# EAGLE library part AD7998 (library space-concordia-power)
AD7998 8 Channel, 10bit, I2C ADCs TSSOP-20 Pkg
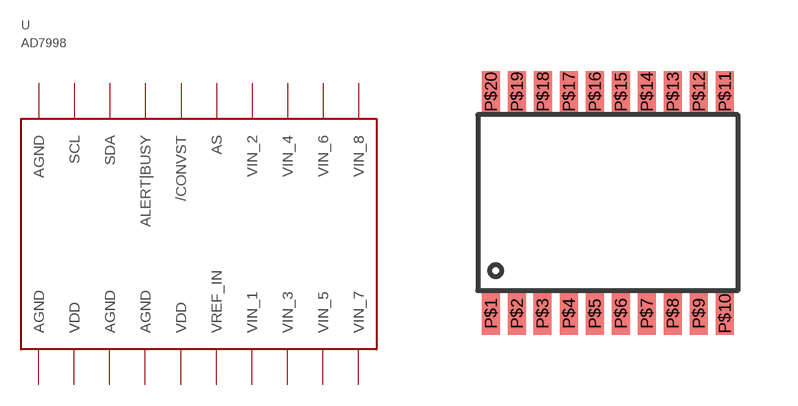
[diagram p10: symbol with the pads of TSSOP-20; footprint TSSOP-20]

Designator prefix -

## AD7998  [TSSOP-20]
P$1  AGND
P$2  VDD
P$3  AGND
P$4  AGND
P$5  VDD
P$6  VREF_IN
P$7  VIN_1
P$8  VIN_3
P$9  VIN_5
P$10  VIN_7
P$11  VIN_8
P$12  VIN_6
P$13  VIN_4
P$14  VIN_2
P$15  AS
P$16  /CONVST
P$17  ALERT|BUSY
P$18  SDA
P$19  SCL
P$20  AGND

## Footprint TSSOP-20 (pad centres in mm)
TSSOP-20 package dimensions taken from a Linear Technologies mechanical drawing Pad size: W 0.45mm x H 1.05mm Footprint Area: 6.6mm x 6.6mm
smd 0.45 x 1.05: P$1 -2.925,-2.775; P$2 -2.275,-2.775; P$3 -1.635,-2.775; P$4 -0.975,-2.775; P$5 -0.325,-2.775; P$6 0.325,-2.775; P$7 0.975,-2.775; P$8 1.625,-2.775; P$9 2.275,-2.775; P$10 2.925,-2.775; P$11 2.925,2.775; P$12 2.275,2.775; P$13 1.625,2.775; P$14 0.975,2.775; P$15 0.325,2.775; P$16 -0.325,2.775; P$17 -0.975,2.775; P$18 -1.625,2.775; P$19 -2.275,2.775; P$20 -2.925,2.775